# EAGLE library part I2C_RIEGEL (library roboternetz_definitionen)
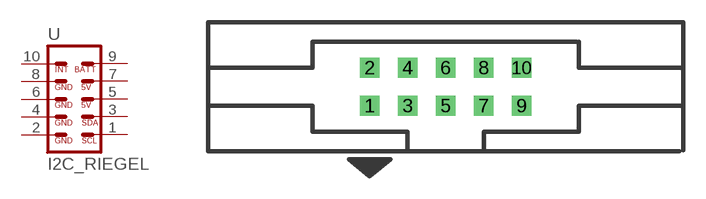
[diagram p2: symbol with the pads of 3M_10; footprint 3M_10]

Designator prefix -

## I2C_RIEGEL  [3M_10]
1  1_SCL  pas
2  2_GND  pas
3  3_SDA  pas
4  4_GND  pas
5  5_5V  pas
6  6_GND  pas
7  7_5V  pas
8  8_GND  pas
9  9_BATT  pas
10  10_INT  pas

## Footprint 3M_10 (pad centres in mm)
3M
drill 0.813 square: 1 -5.08,-1.27; 2 -5.08,1.27; 3 -2.54,-1.27; 4 -2.54,1.27; 5 0,-1.27; 6 0,1.27; 7 2.54,-1.27; 8 2.54,1.27; 9 5.08,-1.27; 10 5.08,1.27